# Altium footprint library Inductor_THT.PcbLib: 2 footprints
Each footprint in its own frame and in the unit in brackets; x right, y up, seen from the top. Pads: shape width x height; smd on the part's side, far side on the other; paste and mask are expansions set on the pad; w line width, h text height; cw(c..) or ccw(c..) is an arc to the next point about the centre after c.
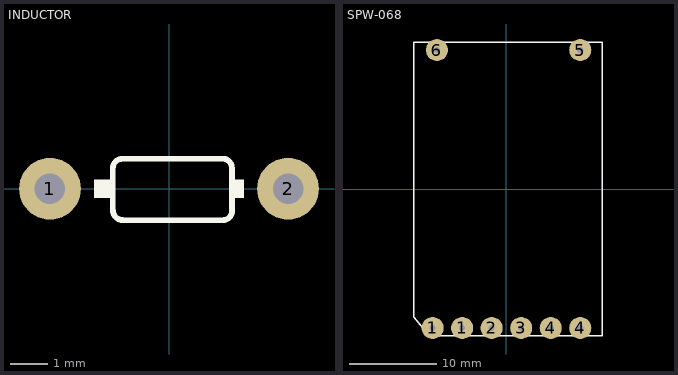
[diagram p0: the footprints below, top view; thin cyan lines are the x and y axes]

## INDUCTOR [mil]
pads (2):
  round 65 hole 32: 1(-125,0) 2(125,0)
Top Overlay:
  rectangle: -78.74,-9.84 -59.06,9.84
  rectangle: 65.94,-9.84 78.74,9.84
  lines w6: -59.07,-23.02 -59.07,22.55 ; -58.97,21.46 cw(c-48.97,21.46) -48.97,31.46 ; -58.82,-22.83 ccw(c-48.82,-22.83) -48.82,-32.83 ; -49.11,31.61 56.89,31.61 ; -33.63,-32.98 -48.63,-32.98 56.37,-32.98 ; 41.37,-32.98 56.37,-32.98 ; 56.15,31.65 cw(c56.15,21.64) 66.16,21.64 66.16,-23.51 ; 66.24,-23.12 cw(c56.37,-23.12) 56.37,-32.98
3D body: height 66.67, standoff -87.75, extent -135,-36.23 135,36.24

## SPW-068 [mm]
pads (8):
  round 2.54 hole 0.7: 1(-8.5,-16.002) 1(-5.1,-16.002) 2(-1.7,-16.002) 3(1.7,-16.002) 4(5.1,-16.002) 4(8.5,-16.002) 5(8.5,16.002) 6(-8,16.002)
Top Overlay:
  lines w0.2: -10.677,-14.732 -8.899,-16.891 11.04,-16.891 11.04,-16.002 11.04,16.002 11.04,16.891 -10.677,16.891 -10.677,-14.732
3D body: height 3, standoff 0, extent -10,-16 10,16
3D body: height 6.9, standoff 3, extent -10,-15 10,14
3D body: height 11, standoff 7, extent -8,-13 8,12
3D body: height 1, standoff -1, extent -9,-16.502 -8,-15.502
3D body: height 1, standoff -1, extent -2.2,-16.502 -1.2,-15.502
3D body: height 1, standoff -1, extent -5.6,-16.502 -4.6,-15.502
3D body: height 1, standoff -1, extent 4.6,-16.502 5.6,-15.502
3D body: height 1, standoff -1, extent 1.2,-16.502 2.2,-15.502
3D body: height 1, standoff -1, extent 8,-16.502 9,-15.502
3D body: height 1, standoff -1, extent 8,15.502 9,16.502
3D body: height 1, standoff -1, extent -8.5,15.502 -7.5,16.502
3D body: height 7, standoff 3, extent -9.975,-14.975 9.975,13.975